# Altium footprint library Heat Sink.PcbLib: 41 footprints (part 3 of 3)
Each footprint in its own frame and in the unit in brackets; x right, y up, seen from the top. Pads: shape width x height; smd on the part's side, far side on the other; paste and mask are expansions set on the pad; w line width, h text height; cw(c..) or ccw(c..) is an arc to the next point about the centre after c.
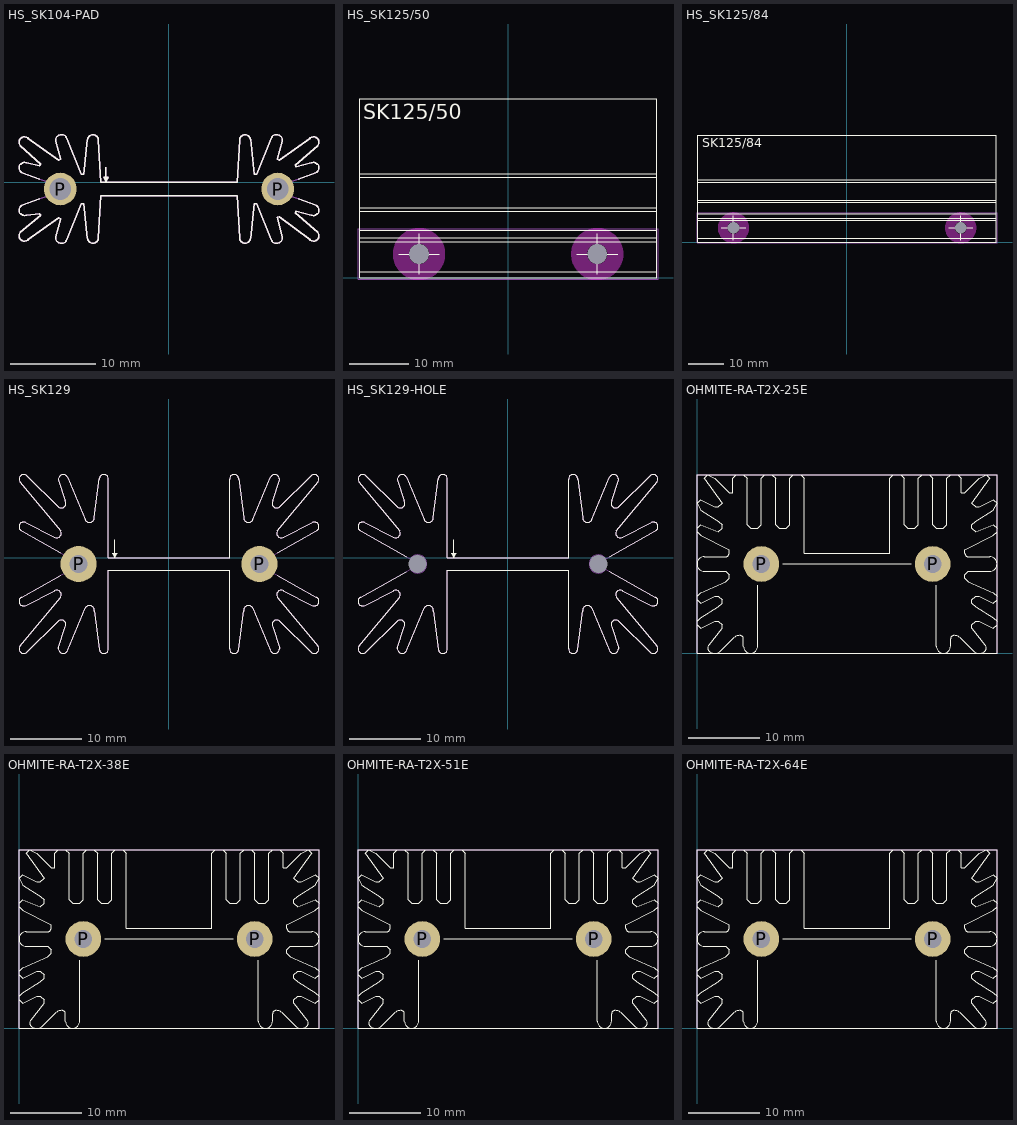
[diagram p2: the footprints below, top view; thin cyan lines are the x and y axes]

## HS_SK104-PAD [mil]
pads (2):
  round 150 hole 100: P(-500,-30) P(500,-30)
Top Overlay:
  lines w6: -677,-105 -595,-75 ; -677,45 -595,15 ; -675.38,-104.16 ccw(c-665,-126.99) -655,-149.99 -596,-143 -591,-150 -685,-230 ccw(c-665,-245) -645,-260 ; -675.38,44.17 cw(c-665,67) -655,90 -596,78 -591,85 -685,170 cw(c-665,185) -645,200 ; -649,-264 -507,-162 -499,-166 -522,-250 ; -649,204 -507,102 -499,106 -522,190 ; -521.56,-248.57 ccw(c-495,-253) -470,-263 -404,-97 -393,-97 -375,-257 ; -521.56,188.58 cw(c-495,193.01) -470,203.01 -404,37 -393,37 -375,197 ; -375,-255 ccw(c-350,-255) -325,-255 -315,-60 315,-60 325,-255 ccw(c350,-255) 375,-255 ; -375,195 cw(c-350,195) -325,195 -315,0 315,0 325,195 cw(c350,195) 375,195 ; -290,70 -290,10 ; 375,-256 393,-97 404,-97 470,-263 ccw(c495,-253) 521.55,-248.57 ; 375,198 393,37 404,37 470,203 cw(c495,193.01) 521.55,188.58 ; 522,-250 499,-161 507,-157 649,-264 ; 522,190 499,106 507,102 649,204 ; 595,-75 677,-105 ; 595,15 676,45 ; 645,-260 ccw(c665,-245) 685,-230 581,-140 586,-133 655,-150 ccw(c665,-126.99) 675.38,-104.16 ; 645,200 cw(c665,185) 685,170 581,80 586,73 655,90 cw(c665,67) 675.38,44.17 ; -295,25 -290,10 ; -295,25 -285,25 ; -295,25 -300,25 -290,5 ; -290,5 -290,10 ; -290,5 -285,25 ; -290,5 -280,25 -285,25
Mechanical 2:
  lines w6: -677,-105 -595,-75 -535,-55 ccw(c-500,-30) -535,-5 -595,15 -677,45 ; -675.38,-104.16 ccw(c-665,-126.99) -655,-149.99 -596,-143 -591,-150 -685,-230 ccw(c-665,-245) -645,-260 ; -675.38,44.17 cw(c-665,67) -655,90 -596,78 -591,85 -685,170 cw(c-665,185) -645,200 ; -649,-264 -507,-162 -499,-166 -522,-250 ; -649,204 -507,102 -499,106 -522,190 ; -521.56,-248.57 ccw(c-495,-253) -470,-263 -404,-97 -393,-97 -375,-257 ; -521.56,188.58 cw(c-495,193.01) -470,203.01 -404,37 -393,37 -375,197 ; -375,-255 ccw(c-350,-255) -325,-255 -315,-60 315,-60 325,-255 ccw(c350,-255) 375,-255 ; -375,195 cw(c-350,195) -325,195 -315,0 315,0 325,195 cw(c350,195) 375,195 ; -290,70 -290,10 ; 375,-256 393,-97 404,-97 470,-263 ccw(c495,-253) 521.55,-248.57 ; 375,198 393,37 404,37 470,203 cw(c495,193.01) 521.55,188.58 ; 522,-250 499,-161 507,-157 649,-264 ; 522,190 499,106 507,102 649,204 ; 535,-55 595,-75 677,-105 ; 535.78,-53.85 cw(c500,-29.99) 535,-5 595,15 676,45 ; 645,-260 ccw(c665,-245) 685,-230 581,-140 586,-133 655,-150 ccw(c665,-126.99) 675.38,-104.16 ; 645,200 cw(c665,185) 685,170 581,80 586,73 655,90 cw(c665,67) 675.38,44.17 ; -295,25 -300,25 -290,5 ; -295,25 -285,25 ; -295,25 -290,10 ; -290,5 -280,25 -285,25 ; -290,5 -285,25 ; -290,5 -290,10

## HS_SK125/50 [mil]
pads (2):
  round 0 hole 130 unplated: MH(-591,157) MH(588,157)
Top Overlay:
  lines w2: -726,157 -456,157 ; -591,22 -591,292 ; 453,157 723,157 ; 588,22 588,292
  lines w6: -985,240 -985,265 ; -985,240 -985,40 982,40 982,240 ; -985,240 982,240 ; -985,265 -985,440 ; -985,265 982,265 ; -985,440 -985,465 ; -985,440 982,440 ; -985,465 -985,665 ; -985,465 982,465 ; -985,665 -985,690 ; -985,665 982,665 ; -985,690 -985,1185 982,1185 982,690 ; -985,690 982,690 ; 982,240 982,265 ; 982,265 982,440 ; 982,265 982,315 ; 982,315 -985,315 -985,0 982,0 982,315 ; 982,440 982,465 ; 982,465 982,665 ; 982,665 982,690
  text "SK125/50" at -960,1050 h100
Keep-Out Layer:
  circle w106: c-591,157 r120
  circle w106: c588,157 r120
Mechanical 2:
  lines w5: -990,-10 990,-10 ; -995,-10 -995,325 ; -995,-10 990,-10 ; -995,-10 -995,325 ; -995,-10 990,-10 ; -995,-10 -995,325 ; -995,325 990,325 ; -995,325 990,325 ; -995,325 990,325 ; 990,-10 990,325 ; 990,-10 990,325 ; 990,-10 990,325

## HS_SK125/84 [mil]
pads (2):
  round 0 hole 130 unplated: MH(-1256,157) MH(1263,157)
Top Overlay:
  lines w2: -1391,157 -1121,157 ; -1256,22 -1256,292 ; 1128,157 1398,157 ; 1263,22 1263,292
  lines w6: -1650,240 1657,240 ; -1650,240 -1650,40 1657,40 1657,240 ; -1650,240 -1650,265 ; -1650,265 1657,265 ; -1650,265 -1650,440 ; -1650,440 1657,440 ; -1650,440 -1650,465 ; -1650,465 1657,465 ; -1650,465 -1650,665 ; -1650,665 1657,665 ; -1650,665 -1650,690 ; -1650,690 1657,690 ; -1650,690 -1650,1185 1657,1185 1657,690 ; 1657,240 1657,265 ; 1657,265 1657,315 ; 1657,265 1657,440 ; 1657,315 1657,0 -1650,0 -1650,315 1657,315 ; 1657,440 1657,465 ; 1657,465 1657,665 ; 1657,665 1657,690
  text "SK125/84" at -1600,1050 h100
Keep-Out Layer:
  circle w106: c1263,157 r120
  circle w106: c-1256,157 r120
Mechanical 2:
  lines w5: -1655,-10 1665,-10 ; -1660,-10 -1660,325 ; -1660,-10 1665,-10 ; -1660,-10 -1660,325 ; -1660,-10 1665,-10 ; -1660,-10 -1660,325 ; -1660,325 1665,325 ; -1660,325 1665,325 ; -1660,325 1665,325 ; 1665,-10 1665,325 ; 1665,-10 1665,325 ; 1665,-10 1665,325

## HS_SK129 [mil]
pads (2):
  round 200 hole 100: P(-500,-35) P(500,-35)
Top Overlay:
  lines w6: -825,-491 -600,-218 ; -825,-490 ccw(c-805,-505) -785,-520 ; -825,420 cw(c-805,435) -785,450 ; -825,421 -600,148 ; -816,-220 -600,-98.44 ; -816,150 -600,28.44 ; -815.38,-219.17 ccw(c-805,-242) -795,-264.99 -633,-183 ; -815.38,149.17 cw(c-805,172) -795,194.99 -633,113 ; -787,-522 -612,-352 ; -787,452 -612,282 ; -635.21,-184.15 cw(c-621,-205) -600,-219 ; -635.22,114.15 ccw(c-621,135) -600,149 ; -615,-355 cw(c-595,-370) -575,-385 ; -615,285 ccw(c-595,300) -575,315 ; -612,-500 -573,-381 ; -612,430 -573,311 ; -611.56,-498.57 ccw(c-585,-503) -560,-513 -464,-280 ; -611.56,428.57 cw(c-585,433) -560,443 -464,210 ; -465,-282 cw(c-440,-292) -413.44,-296.43 ; -465,212 ccw(c-440,222) -413.44,226.43 ; -413,-294 -385,-507 ; -413,224 -385,437 ; -385,-505 ccw(c-360,-505) -335,-505 -335,-70 335,-70 335,-505 ccw(c360,-505) 385,-505 ; -385,435 cw(c-360,435) -335,435 -335,0 -300,0 ; -300,100 -300,20 ; 385,-507 413,-294 ; 385,435 ccw(c360,435) 335,435 335,0 -300,0 ; 385,437 413,224 ; 413.44,-296.43 cw(c440,-292) 465,-282 ; 413.44,226.43 ccw(c440,222) 465,212 ; 464,-280 560,-513 ccw(c585,-503) 611.56,-498.57 ; 464,210 560,443 cw(c585,433) 611.56,428.57 ; 573,-381 612,-500 ; 573,311 612,430 ; 575,-385 cw(c595,-370) 615,-355 ; 575,315 ccw(c595,300) 615,285 ; 600,-219 cw(c621,-205) 635.22,-184.15 ; 600,-218 825,-491 ; 600,-98.44 816,-220 ; 600,28.44 816,150 ; 600,148 825,421 ; 600,149 ccw(c621,135) 635.22,114.14 ; 612,-352 787,-522 ; 612,282 787,452 ; 633,-183 795,-265 ccw(c805,-242) 815.38,-219.16 ; 633,113 795,195 cw(c805,172) 815.38,149.16 ; 785,-520 ccw(c805,-505) 825,-490 ; 785,450 cw(c805,435) 825,420 ; -310,25 -290,25 ; -310,25 -300,5 ; -310,25 -315,25 -300,0 ; -310,25 -300,20 ; -300,0 -285,25 -290,25 ; -300,0 -300,5 ; -300,5 -290,25 ; -300,5 -300,20 ; -300,20 -290,25
Mechanical 2:
  lines w6: -825,-491 -600,-218 ; -825,-490 ccw(c-805,-505) -785,-520 ; -825,420 cw(c-805,435) -785,450 ; -825,421 -600,148 ; -816,-220 -585,-90 -540,-65 ccw(c-500,-35) -540,-5 -585,20 -816,150 ; -815.38,-219.17 ccw(c-805,-242) -795,-264.99 -633,-183 ; -815.38,149.17 cw(c-805,172) -795,194.99 -633,113 ; -787,-522 -612,-352 ; -787,452 -612,282 ; -635.21,-184.15 cw(c-621,-205) -600,-219 ; -635.22,114.15 ccw(c-621,135) -600,149 ; -615,-355 cw(c-595,-370) -575,-385 ; -615,285 ccw(c-595,300) -575,315 ; -612,-500 -573,-381 ; -612,430 -573,311 ; -611.56,-498.57 ccw(c-585,-503) -560,-513 -464,-280 ; -611.56,428.57 cw(c-585,433) -560,443 -464,210 ; -465,-282 cw(c-440,-292) -413.44,-296.43 ; -465,212 ccw(c-440,222) -413.44,226.43 ; -413,-294 -385,-507 ; -413,224 -385,437 ; -385,-505 ccw(c-360,-505) -335,-505 -335,-70 335,-70 335,-505 ccw(c360,-505) 385,-505 ; -385,435 cw(c-360,435) -335,435 -335,0 -300,0 335,0 335,435 cw(c360,435) 385,435 ; 385,-507 413,-294 ; 385,437 413,224 ; 413.44,-296.43 cw(c440,-292) 465,-282 ; 413.44,226.43 ccw(c440,222) 465,212 ; 464,-280 560,-513 ccw(c585,-503) 611.56,-498.57 ; 464,210 560,443 cw(c585,433) 611.56,428.57 ; 573,-381 612,-500 ; 573,311 612,430 ; 575,-385 cw(c595,-370) 615,-355 ; 575,315 ccw(c595,300) 615,285 ; 600,-219 cw(c621,-205) 635.22,-184.15 ; 600,-218 825,-491 ; 600,148 825,421 ; 600,149 ccw(c621,135) 635.22,114.14 ; 612,-352 787,-522 ; 612,282 787,452 ; 633,-183 795,-265 ccw(c805,-242) 815.38,-219.16 ; 633,113 795,195 cw(c805,172) 815.38,149.16 ; 785,-520 ccw(c805,-505) 825,-490 ; 785,450 cw(c805,435) 825,420 ; 816,-220 585,-90 540,-65 cw(c500,-35) 540,-5 585,20 816,150
  text "2,5" at -550,-150 h50
  text "2,5" at 450,-150 h50

## HS_SK129-HOLE [mil]
pads (2):
  round 0 hole 100 unplated: MH(-500,-35) MH(500,-35)
Top Overlay:
  lines w6: -825,-491 -600,-218 ; -825,-490 ccw(c-805,-505) -785,-520 ; -825,420 cw(c-805,435) -785,450 ; -825,421 -600,148 ; -816,-220 -561.74,-76.91 ; -816,150 -560.08,5.97 ; -815.38,-219.16 ccw(c-805,-241.99) -795,-264.99 -633,-183 ; -815.38,149.17 cw(c-805,172) -795,195 -633,113 ; -787,-522 -612,-352 ; -787,452 -612,282 ; -635.22,-184.14 cw(c-621,-204.99) -600,-218.99 ; -635.21,114.15 ccw(c-620.99,135) -599.99,149.01 ; -615,-355 cw(c-595,-370) -575,-385 ; -615,285 ccw(c-595,300) -575,315 ; -612,-500 -573,-381 ; -612,430 -573,311 ; -611.56,-498.57 ccw(c-585,-503) -560,-513 -464,-280 ; -611.56,428.58 cw(c-585,433.01) -560,443.01 -464,210 ; -465,-281.99 cw(c-440,-291.99) -413.44,-296.42 ; -465,212 ccw(c-440,222) -413.44,226.43 ; -413,-294 -385,-507 ; -413,224 -385,437 ; -385,-505 ccw(c-360,-505) -335,-505 -335,-70 335,-70 335,-505 ccw(c360,-505) 385,-505 ; -385,435 cw(c-360,435) -335,435 -335,0 -300,0 ; -300,100 -300,20 ; 385,-507 413,-294 ; 385,435 ccw(c360,435) 335,435 335,0 -300,0 ; 385,437 413,224 ; 413.44,-296.42 cw(c440,-291.99) 465,-281.99 ; 413.44,226.43 ccw(c440,222) 465,212 ; 464,-280 560,-513 ccw(c585,-503) 611.55,-498.57 ; 464,210 560,443 cw(c585,433.01) 611.55,428.58 ; 560.08,-75.97 816,-220 ; 560.08,5.97 816,150 ; 573,-381 612,-500 ; 573,311 612,430 ; 575,-385 cw(c595,-370) 615,-355 ; 575,315 ccw(c595,300) 615,285 ; 600,-218.99 cw(c620.99,-204.99) 635.21,-184.14 ; 600,-218 825,-491 ; 600,148 825,421 ; 600,149 ccw(c621,135) 635.22,114.15 ; 612,-352 787,-522 ; 612,282 787,452 ; 633,-183 795,-265 ccw(c805,-241.99) 815.38,-219.16 ; 633,113 795,195 cw(c805,172) 815.38,149.17 ; 785,-520 ccw(c805,-505) 825,-490 ; 785,450 cw(c805,435) 825,420 ; -310,25 -300,20 ; -310,25 -315,25 -300,0 ; -310,25 -300,5 ; -310,25 -290,25 ; -300,0 -300,5 ; -300,0 -285,25 -290,25 ; -300,5 -300,20 ; -300,5 -290,25 ; -300,20 -290,25
Mechanical 2:
  lines w6: -825,-491 -600,-218 ; -825,-490 ccw(c-805,-505) -785,-520 ; -825,420 cw(c-805,435) -785,450 ; -825,421 -600,148 ; -816,-220 -585,-90 -540,-65 ccw(c-500,-35) -540,-5 -585,20 -816,150 ; -815.38,-219.16 ccw(c-805,-241.99) -795,-264.99 -633,-183 ; -815.38,149.17 cw(c-805,172) -795,195 -633,113 ; -787,-522 -612,-352 ; -787,452 -612,282 ; -635.22,-184.14 cw(c-621,-204.99) -600,-218.99 ; -635.21,114.15 ccw(c-620.99,135) -599.99,149.01 ; -615,-355 cw(c-595,-370) -575,-385 ; -615,285 ccw(c-595,300) -575,315 ; -612,-500 -573,-381 ; -612,430 -573,311 ; -611.56,-498.57 ccw(c-585,-503) -560,-513 -464,-280 ; -611.56,428.58 cw(c-585,433.01) -560,443.01 -464,210 ; -465,-281.99 cw(c-440,-291.99) -413.44,-296.42 ; -465,212 ccw(c-440,222) -413.44,226.43 ; -413,-294 -385,-507 ; -413,224 -385,437 ; -385,-505 ccw(c-360,-505) -335,-505 -335,-70 335,-70 335,-505 ccw(c360,-505) 385,-505 ; -385,435 cw(c-360,435) -335,435 -335,0 -300,0 335,0 335,435 cw(c360,435) 385,435 ; 385,-507 413,-294 ; 385,437 413,224 ; 413.44,-296.42 cw(c440,-291.99) 465,-281.99 ; 413.44,226.43 ccw(c440,222) 465,212 ; 464,-280 560,-513 ccw(c585,-503) 611.55,-498.57 ; 464,210 560,443 cw(c585,433.01) 611.55,428.58 ; 573,-381 612,-500 ; 573,311 612,430 ; 575,-385 cw(c595,-370) 615,-355 ; 575,315 ccw(c595,300) 615,285 ; 600,-218.99 cw(c620.99,-204.99) 635.21,-184.14 ; 600,-218 825,-491 ; 600,148 825,421 ; 600,149 ccw(c621,135) 635.22,114.15 ; 612,-352 787,-522 ; 612,282 787,452 ; 633,-183 795,-265 ccw(c805,-241.99) 815.38,-219.16 ; 633,113 795,195 cw(c805,172) 815.38,149.17 ; 785,-520 ccw(c805,-505) 825,-490 ; 785,450 cw(c805,435) 825,420 ; 816,-220 585,-90 540,-65 cw(c500,-35) 540,-5 585,20 816,150

## OHMITE-RA-T2X-25E [mm]
pads (2):
  round 5 hole 2.5 unplated mask+0.051: P(9,12.5) P(33,12.5)
Top Overlay:
  drawing of 169 lines, arcs and shapes, not listed
Mechanical 1:
  lines w0.152: 0,0 42,0 42,25 0,25 0,0
3D body: height 25.4, standoff 0, extent 0,12.5 21,25
3D body: height 25.4, standoff 0, extent 0,0 8.5,12.5
3D body: height 25.4, standoff 0, extent 33.5,0 42,12.5
3D body: height 25.4, standoff 0, extent 21,12.5 42,25
3D body: height 0, standoff -3.05, extent 8.004,11.5 9.996,13.496
3D body: height 0, standoff -3.05, extent 32.004,11.5 33.996,13.496

## OHMITE-RA-T2X-38E [mm]
pads (2):
  round 5 hole 2.5 unplated mask+0.051: P(9,12.5) P(33,12.5)
Top Overlay:
  drawing of 169 lines, arcs and shapes, not listed
Mechanical 1:
  lines w0.152: 0,0 0,25 42,25 42,0 0,0
3D body: height 0, standoff -3.05, extent 32.004,11.5 33.996,13.496
3D body: height 0, standoff -3.05, extent 8.004,11.5 9.996,13.496
3D body: height 38, standoff 0, extent 21,12.5 42,25
3D body: height 38, standoff 0, extent 33.5,0 42,12.5
3D body: height 38, standoff 0, extent 0,0 8.5,12.5
3D body: height 38, standoff 0, extent 0,12.5 21,25

## OHMITE-RA-T2X-51E [mm]
pads (2):
  round 5 hole 2.5 unplated mask+0.051: P(9,12.5) P(33,12.5)
Top Overlay:
  drawing of 169 lines, arcs and shapes, not listed
Mechanical 1:
  lines w0.152: 0,0 0,25 42,25 42,0 0,0
3D body: height 0, standoff -3.05, extent 32.004,11.5 33.996,13.496
3D body: height 0, standoff -3.05, extent 8.004,11.5 9.996,13.496
3D body: height 51, standoff 0, extent 21,12.5 42,25
3D body: height 51, standoff 0, extent 33.5,0 42,12.5
3D body: height 51, standoff 0, extent 0,0 8.5,12.5
3D body: height 51, standoff 0, extent 0,12.5 21,25

## OHMITE-RA-T2X-64E [mm]
pads (2):
  round 5 hole 2.5 unplated mask+0.051: P(9,12.5) P(33,12.5)
Top Overlay:
  drawing of 169 lines, arcs and shapes, not listed
Mechanical 1:
  lines w0.152: 0,0 42,0 42,25 0,25 0,0
3D body: height 64, standoff 0, extent 0,12.5 21,25
3D body: height 64, standoff 0, extent 0,0 8.5,12.5
3D body: height 64, standoff 0, extent 33.5,0 42,12.5
3D body: height 64, standoff 0, extent 21,12.5 42,25
3D body: height 0, standoff -3.05, extent 8.004,11.5 9.996,13.496
3D body: height 0, standoff -3.05, extent 32.004,11.5 33.996,13.496